# EAGLE library part MCP2515 (library mcp2515)
MCP2515 MODULE
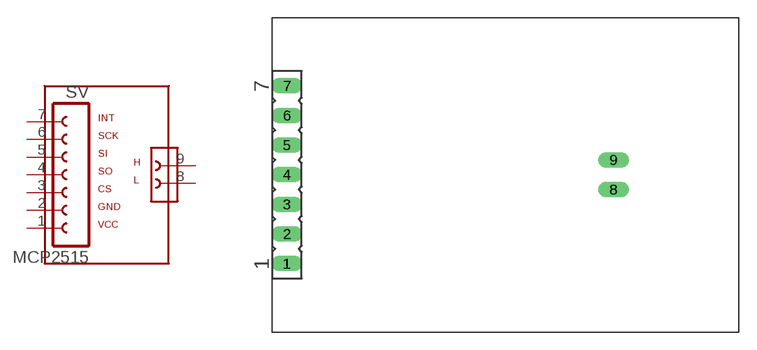
[diagram p0: symbol with the pads of MCP2515; footprint MCP2515]

Designator prefix SV

## MCP2515 (OC_FARNELL: unknown; OC_NEWARK: unknown)  [MCP2515]
1  1  pas
2  2  pas
3  3  pas
4  4  pas
5  5  pas
6  6  pas
7  7  pas
8  8  pas
9  9  pas

## Footprint MCP2515 (pad centres in mm)
MCP2515 MODULE
drill 0.813 long: 1 1.27,-6.35; 2 1.27,-3.81; 3 1.27,-1.27; 4 1.27,1.27; 5 1.27,3.81; 6 1.27,6.35; 7 1.27,8.89; 8 29.27,0; 9 29.27,2.54